# EAGLE library part ATMEGA328P-AUR (library atmega328p)
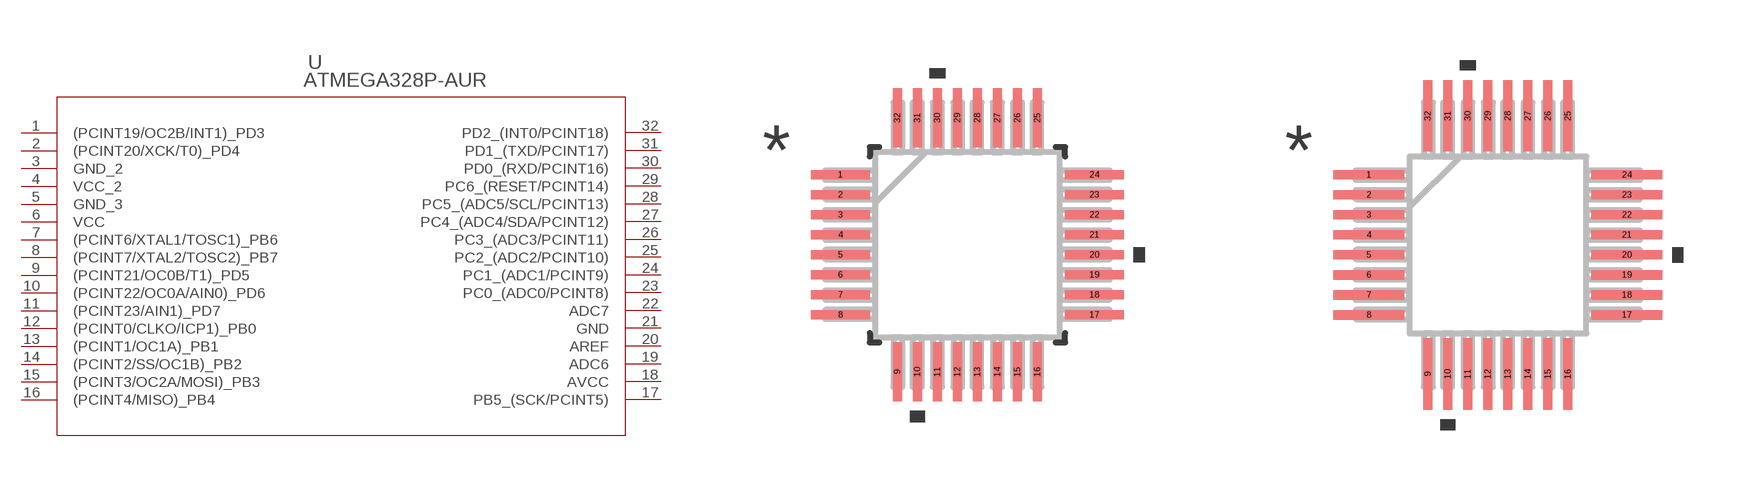
[diagram p0: symbol with the pads of 32A; footprints 32A, 32A-M]

Designator prefix U

## ATMEGA328P-AUR (MANUFACTURER_PART_NUMBER: ATMEGA328PAUR; VENDOR: Atmel)  [32A]
1  (PCINT19/OC2B/INT1)_PD3
2  (PCINT20/XCK/T0)_PD4
3  GND_2  pwr
4  VCC_2  pwr
5  GND_3  pwr
6  VCC  pwr
7  (PCINT6/XTAL1/TOSC1)_PB6
8  (PCINT7/XTAL2/TOSC2)_PB7
9  (PCINT21/OC0B/T1)_PD5
10  (PCINT22/OC0A/AIN0)_PD6
11  (PCINT23/AIN1)_PD7
12  (PCINT0/CLKO/ICP1)_PB0
13  (PCINT1/OC1A)_PB1
14  (PCINT2/SS/OC1B)_PB2
15  (PCINT3/OC2A/MOSI)_PB3
16  (PCINT4/MISO)_PB4
17  PB5_(SCK/PCINT5)
18  AVCC  pwr
19  ADC6  in
20  AREF  pas
21  GND  pwr
22  ADC7  in
23  PC0_(ADC0/PCINT8)
24  PC1_(ADC1/PCINT9)
25  PC2_(ADC2/PCINT10)
26  PC3_(ADC3/PCINT11)
27  PC4_(ADC4/SDA/PCINT12)
28  PC5_(ADC5/SCL/PCINT13)
29  PC6_(RESET/PCINT14)
30  PD0_(RXD/PCINT16)
31  PD1_(TXD/PCINT17)
32  PD2_(INT0/PCINT18)

## ATMEGA328P-AUR32A-M (MANUFACTURER_PART_NUMBER: ATMEGA328PAUR; VENDOR: Atmel)  [32A-M]
Pads as for 32A

## ATMEGA328P-AUR32A-L (MANUFACTURER_PART_NUMBER: ATMEGA328PAUR; VENDOR: Atmel)  [32A-L]
Pads as for 32A

## Footprint 32A (pad centres in mm)
smd 1.473 x 0.229: 1 -3.175,1.751; 2 -3.175,1.251; 3 -3.175,0.751; 4 -3.175,0.25; 5 -3.175,-0.25; 6 -3.175,-0.751; 7 -3.175,-1.251; 8 -3.175,-1.751; 17 3.175,-1.751; 18 3.175,-1.251; 19 3.175,-0.751; 20 3.175,-0.25; 21 3.175,0.25; 22 3.175,0.751; 23 3.175,1.251; 24 3.175,1.751
smd 0.229 x 1.473: 9 -1.751,-3.175; 10 -1.251,-3.175; 11 -0.751,-3.175; 12 -0.25,-3.175; 13 0.25,-3.175; 14 0.751,-3.175; 15 1.251,-3.175; 16 1.751,-3.175; 25 1.751,3.175; 26 1.251,3.175; 27 0.751,3.175; 28 0.25,3.175; 29 -0.25,3.175; 30 -0.751,3.175; 31 -1.251,3.175; 32 -1.751,3.175

## Footprint 32A-M (pad centres in mm)
smd 1.778 x 0.229: 1 -3.226,1.751; 2 -3.226,1.251; 3 -3.226,0.751; 4 -3.226,0.25; 5 -3.226,-0.25; 6 -3.226,-0.751; 7 -3.226,-1.251; 8 -3.226,-1.751; 17 3.226,-1.751; 18 3.226,-1.251; 19 3.226,-0.751; 20 3.226,-0.25; 21 3.226,0.25; 22 3.226,0.751; 23 3.226,1.251; 24 3.226,1.751
smd 0.229 x 1.778: 9 -1.751,-3.226; 10 -1.251,-3.226; 11 -0.751,-3.226; 12 -0.25,-3.226; 13 0.25,-3.226; 14 0.751,-3.226; 15 1.251,-3.226; 16 1.751,-3.226; 25 1.751,3.226; 26 1.251,3.226; 27 0.751,3.226; 28 0.25,3.226; 29 -0.25,3.226; 30 -0.751,3.226; 31 -1.251,3.226; 32 -1.751,3.226

## Footprint 32A-L (pad centres in mm)
smd 1.168 x 0.229: 1 -3.124,1.751; 2 -3.124,1.251; 3 -3.124,0.751; 4 -3.124,0.25; 5 -3.124,-0.25; 6 -3.124,-0.751; 7 -3.124,-1.251; 8 -3.124,-1.751; 17 3.124,-1.751; 18 3.124,-1.251; 19 3.124,-0.751; 20 3.124,-0.25; 21 3.124,0.25; 22 3.124,0.751; 23 3.124,1.251; 24 3.124,1.751
smd 0.229 x 1.168: 9 -1.751,-3.124; 10 -1.251,-3.124; 11 -0.751,-3.124; 12 -0.25,-3.124; 13 0.25,-3.124; 14 0.751,-3.124; 15 1.251,-3.124; 16 1.751,-3.124; 25 1.751,3.124; 26 1.251,3.124; 27 0.751,3.124; 28 0.25,3.124; 29 -0.25,3.124; 30 -0.751,3.124; 31 -1.251,3.124; 32 -1.751,3.124